# Altium schematic symbol library TRIMPOT.SCHLIB: 1 symbol
Pins are listed as number, name and electrical type; pins without a type are passive.

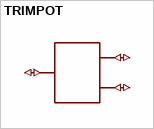
[diagram p0: symbol TRIMPOT]

## TRIMPOT
designator ?
GateName_1: G$1; SymbolName_1: TRIMPOT; LibraryName: TRIMPOT; DeviceSetName: TRIMPOT; Package: TRIMPOT
footprint TRIMPOT
pins: OUT (io), VCC1 (io), VCC2 (io)